# EAGLE library part AC_RELAY (library Anthony-Relay)
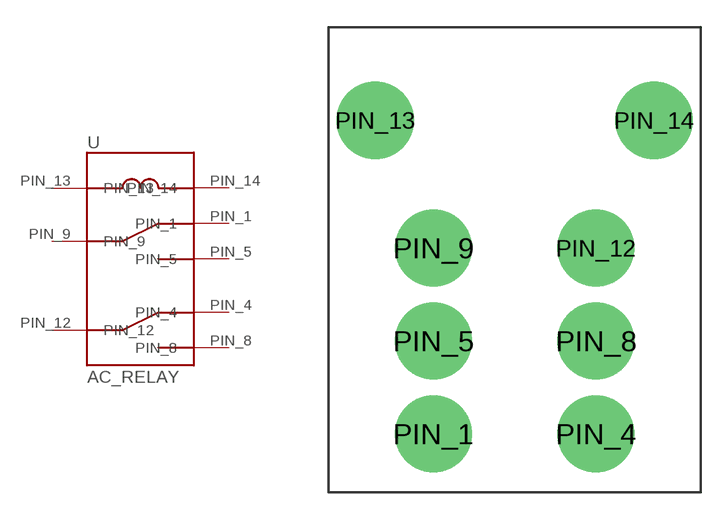
[diagram p0: symbol with the pads of 70-402-1; footprint 70-402-1]

Designator prefix -

## AC_RELAY  [70-402-1]
PIN_1  PIN_1
PIN_4  PIN_4
PIN_5  PIN_5
PIN_8  PIN_8
PIN_9  PIN_9
PIN_12  PIN_12
PIN_13  PIN_13
PIN_14  PIN_14

## Footprint 70-402-1 (pad centres in mm)
drill 3.2 round: PIN_1 5.715,3.175; PIN_4 14.605,3.175; PIN_5 5.715,8.255; PIN_8 14.605,8.255; PIN_9 5.715,13.335; PIN_12 14.605,13.335; PIN_13 2.54,20.32; PIN_14 17.78,20.32